# Altium schematic symbol library Molex 6-pin.SchLib: 1 symbol
Pins are listed as number, name and electrical type; pins without a type are passive.

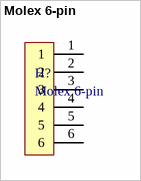
[diagram p0: symbol Molex 6-pin]

## Molex 6-pin
designator H?
Micro-Fit 3.0 Vertical Header, 3.00mm Pitch, Dual Row, 6 Circuits, with Solder Tab, Tin, Glow-Wire Capable, Black (43045-0618) + Micro-Fit 3.0 Receptacle Housing, Dual Row, 6 Circuits, UL 94V-0, Low-Halogen, Black (43025-0600)
footprint ProgrammingConnector (Molex 6-pin, Vertical Angle, Tin Plated)
pins: 1, 2, 3, 4, 5, 6